# Altium footprint library AMS1117-3.3.PcbLib: 1 footprints
Each footprint in its own frame and in the unit in brackets; x right, y up, seen from the top. Pads: shape width x height; smd on the part's side, far side on the other; paste and mask are expansions set on the pad; w line width, h text height; cw(c..) or ccw(c..) is an arc to the next point about the centre after c.
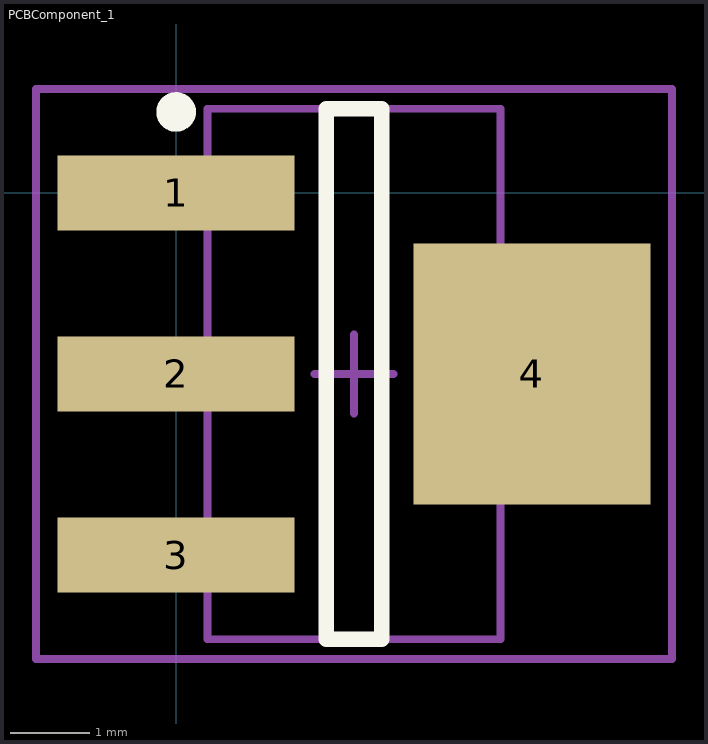
[diagram p0: the footprint, top view; thin cyan lines are the x and y axes]

## PCBComponent_1 [mm]
pads (4):
  rect 3x0.95 smd: 1(0,0) 2(0,-2.29) 3(0,-4.58)
  rect 3x3.3 smd: 4(4.5,-2.29)
Top Overlay:
  circle w0.25: c0,1.025 r0.125
  lines w0.2: 1.9,-5.645 2.6,-5.645 2.6,1.065 1.9,1.065 1.9,-5.645
Mechanical 13:
  lines w0.1: 0.395,-5.645 4.105,-5.645 4.105,1.065 0.395,1.065 0.395,-5.645
Mechanical 15:
  lines w0.1: 1.75,-2.29 2.75,-2.29 ; 2.25,-2.79 2.25,-1.79 ; -1.775,-5.895 6.275,-5.895 6.275,1.315 -1.775,1.315 -1.775,-5.895
3D body: height 1.8, standoff 0.64, extent 0.395,-5.645 4.105,1.065